# EAGLE library part CD4093BE (library NAND Gates)
4-Channel 2-Input 14-pin NAND Gates Datasheet: http://www.ti.com/lit/ds/symlink/cd4093b.pdf
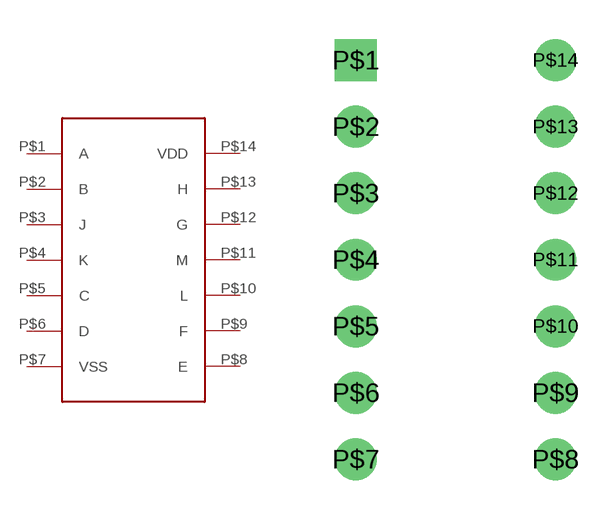
[diagram p0: symbol with the pads of CD4093BE; footprint CD4093BE]

Designator prefix -

## CD4093BE  [CD4093BE]
P$1  A
P$2  B
P$3  J
P$4  K
P$5  C
P$6  D
P$7  VSS
P$8  E
P$9  F
P$10  L
P$11  M
P$12  G
P$13  H
P$14  VDD

## Footprint CD4093BE (pad centres in mm)
4-Channel 2-Input 14-pin NAND Gates
drill 0.991 pad 1.6 square: P$1 -3.81,7.62
drill 0.991 pad 1.6: P$2 -3.81,5.08; P$3 -3.81,2.54; P$4 -3.81,0; P$5 -3.81,-2.54; P$6 -3.81,-5.08; P$7 -3.81,-7.62; P$8 3.81,-7.62; P$9 3.81,-5.08; P$10 3.81,-2.54; P$11 3.81,0; P$12 3.81,2.54; P$13 3.81,5.08; P$14 3.81,7.62